# Altium schematic symbol library RCDQLY (2).SCHLIB: 64 symbols
Pins are listed as number, name and electrical type; pins without a type are passive.

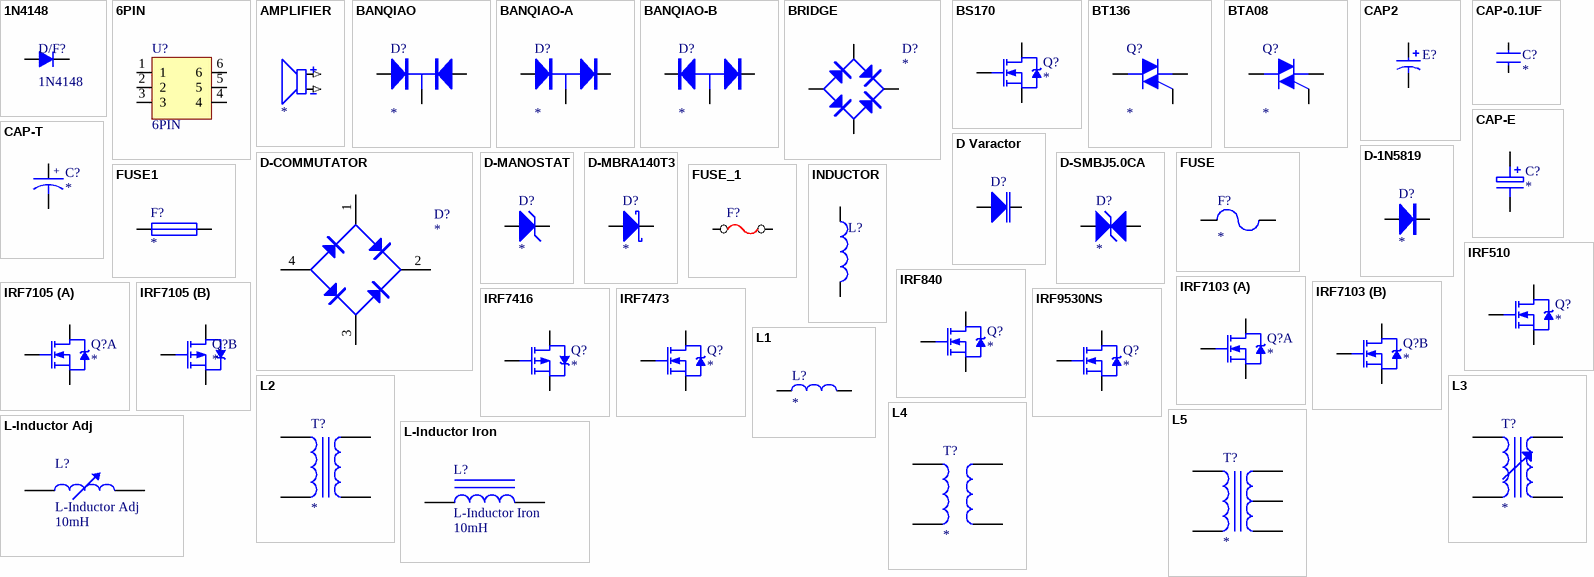
[diagram p0: symbols 1N4148 to L-Inductor Iron]

## 1N4148
designator D/F?
footprint SOD-80
pins: A, K

## 6PIN
designator U?
pins: 1, 2, 3, 4, 5, 6

## AMPLIFIER
designator ?
pins: 1 IN+ (in), 2 IN- (in)

## BANQIAO
designator D?
DIODE BRIDGE
pins: 1 A1, 2 K, 3 A2

## BANQIAO-A
designator D?
DIODE BRIDGE
pins: 1 A, 2 C, 3 K

## BANQIAO-B
designator D?
DIODE BRIDGE
pins: 1 K1, 2 A, 3 K2

## BRIDGE
designator D?
DIODE BRIDGE
pins: 1 AC, 2 V+, 3 AC, 4 V-

## BS170
designator Q?
CQ-BS170
footprint TO-92
pins: 1 D, 2 G, 3 S

## BT136
designator Q?
CQ-BT136
footprint TO-220
pins: 1 T1, 2 T2, 3 G

## BTA08
designator Q?
CQ-BTA08
footprint TO-220
pins: 1 A1, 2 A2, 3 G

## CAP2
designator E?  (value not drawn)
Bi-Polar Capacitor
simulation model CAP
pins: 1, 2
1 alternate drawing of the same symbol

## CAP-0.1UF
designator C?
SMD-CAP
footprint 0603C
footprint 0805C
footprint 1206C
pins: 1, 2

## CAP-E
designator C?
电解电容
footprint RB.2/.4
footprint RB.2/.5
footprint RB.1/.3
footprint RB.3/.6
pins: 1, 2

## CAP-T
designator C?
钽电容
footprint 6032C
footprint 7343C
footprint 3528C
footprint 3216C
pins: 1, 2
text: +

## D Varactor
designator D?
Variable Capacitance Diode; Note: Pin 2 is not connected and not drawn.; Published: 8-Jun-2000; LatestRevisionDate: 17-Jul-2002; LatestRevisionNote: Re-released for DXP Platform.; DatasheetDocument: Jan-1998; PackageReference: SOT23A; Publisher: Altium Limited; Code_JEDEC: SOT23; ComponentLink1Description: Manufacturer Link; ComponentLink1URL: http://www.zetex.com/
footprint SOT23A (SOT-23; 3 Leads; Body 3.0 x 2.5 mm, inc. leads (LxW max))
simulation model BBY31 (Diode)
signal-integrity model D Varactor
pins: 1 K, 3 A

## D-1N5819
designator D?
Diode
footprint DO-41
footprint DO-35
pins: A 1, K 2

## D-COMMUTATOR
designator D?
commutator整流桥
pins: 1 AC, 2 V+, 3 AC, 4 V-

## D-MANOSTAT
designator D?
manostat diode
footprint DO-41
footprint DO-35
pins: A 1, K 2

## D-MBRA140T3
designator D?
MBRA140T3
footprint SMA
pins: A 1, K 2

## D-SMBJ5.0CA
designator D?
TVS
footprint SMB
footprint SMB-B
pins: A 1, K 2

## FUSE
designator F?
CR-1812-050A60V
footprint 1812R
pins: 1, 2

## FUSE1
designator F?
FUSE
pins: 1, 2

## FUSE_1
designator F?  (value not drawn)
Fuse
simulation model FUSE (SUBCKT)
pins: 1, 2

## INDUCTOR
designator L?  (value not drawn)
Inductor
simulation model INDUCTOR
pins: 1, 2

## IRF510
designator Q?
CQ-IRF510
footprint TO-220
pins: 1 G, 2 D, 3 S

## IRF840
designator Q?
CQ-IRF840
footprint TO-220
pins: 1 G, 2 D, 3 S

## IRF7103
designator Q?
CQ-IRF7103     SO-8N
footprint IRF7105
part A pins: D1, G1, S1
part B pins: D2, G2, S2

## IRF7105
designator Q?
CQ-IRF7105     SO-8N
footprint IRF7105
part A pins: D1, G1, S1
part B pins: D2, G2, S2

## IRF7416
designator Q?
CQ-IRF7416
footprint IRF7416
pins: D, G, S

## IRF7473
designator Q?
CQ-IRF7473
footprint IRF7473
pins: D, G, S

## IRF9530NS
designator Q?
CQ-IRF9530NS
footprint D2PAK
pins: 1 G, 2 D, 3 S

## L1
designator L?
电感
footprint SLF10145
footprint SLF12565
pins: 1, 2

## L2
designator T?
变压器
pins: 1, 2, 3, 4

## L3
designator T?
变压器
pins: 1, 2, 3, 4

## L4
designator T?
变压器
pins: 1, 2, 3, 4

## L5
designator T?
变压器
pins: 1, 2, 3, 4, 5

## L-Inductor Adj
designator L?  value 10mH
Adjustable Inductor; Set Position: 0.5; Published: 24-Mar-1999; LatestRevisionDate: 17-Jul-2002; LatestRevisionNote: Re-released for DXP Platform.; PackageReference: AXIAL-0.8; Publisher: Altium Limited
footprint AXIAL-0.8 (Adjustable Inductor; 2 Leads)
simulation model INDUCTOR (Inductor)
signal-integrity model Inductor Adj
pins: 1, 2

## L-Inductor Iron
designator L?  value 10mH
Magnetic-Core Inductor; Published: 24-Mar-1999; LatestRevisionDate: 17-Jul-2002; LatestRevisionNote: Re-released for DXP Platform.; PackageReference: AXIAL-0.9; Publisher: Altium Limited
footprint AXIAL-0.9 (Magnetic-Core Inductor; 2 Leads)
simulation model INDUCTOR (Inductor)
signal-integrity model Inductor Iron
pins: 1, 2

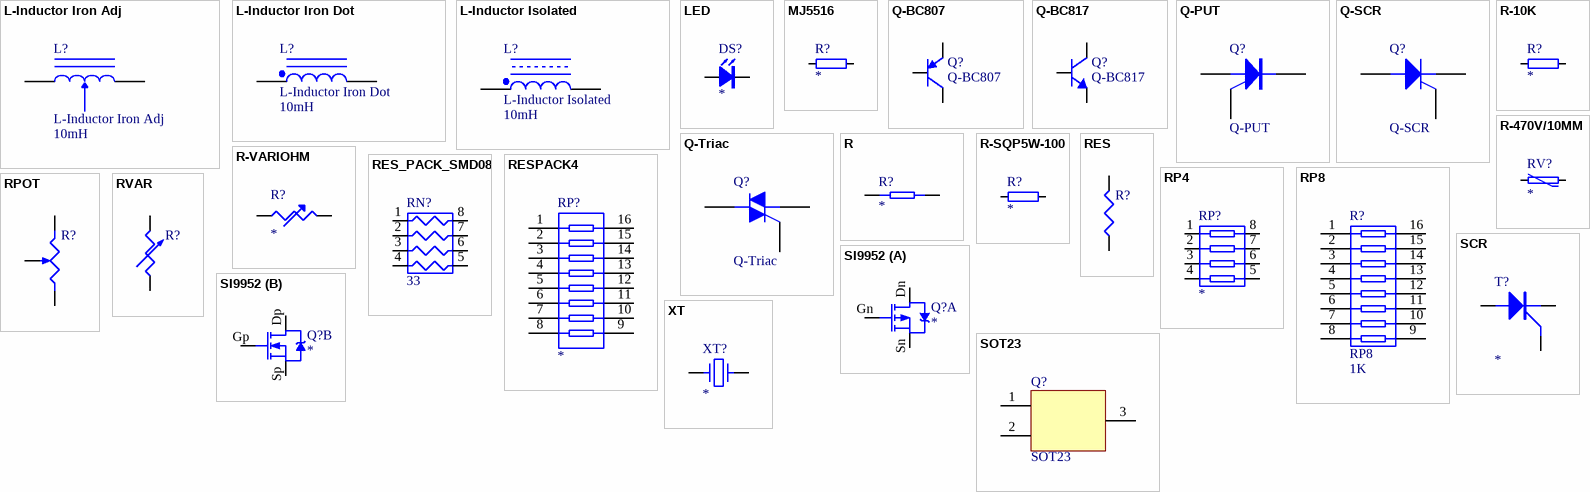
[diagram p1: symbols L-Inductor Iron Adj to XT]

## L-Inductor Iron Adj
designator L?  value 10mH
Adjustable Magnetic-Core Inductor; Set Position: 0.5; Published: 24-Mar-1999; LatestRevisionDate: 17-Jul-2002; LatestRevisionNote: Re-released for DXP Platform.; PackageReference: AXIAL-1.0; Publisher: Altium Limited
footprint AXIAL-1.0 (Adjustable Magnetic-Core Inductor; 2 Leads)
simulation model INDUCTOR (Inductor)
signal-integrity model Inductor Iron Adj
pins: 1, 2

## L-Inductor Iron Dot
designator L?  value 10mH
Magnetic-Core Inductor with Winding Polarity Marking; Published: 24-Mar-1999; LatestRevisionDate: 17-Jul-2002; LatestRevisionNote: Re-released for DXP Platform.; PackageReference: DIODE_SMC; Publisher: Altium Limited
footprint DIODE_SMC (Magnetic-Core Inductor with Winding Polarity Marking; 2 Leads)
signal-integrity model Inductor Iron Dot
pins: 1, 2

## L-Inductor Isolated
designator L?  value 10mH
Isolated Inductor; PackageDocument: 1988; Published: 24-Mar-1999; LatestRevisionDate: 17-Jul-2002; LatestRevisionNote: Re-released for DXP Platform.; PackageReference: 425; Publisher: Altium Limited
footprint 425 (SOD-123; 2 Leads; Body 2.7 x 1.6 mm, (LxW))
signal-integrity model Inductor Isolated
pins: 1, 2

## LED
designator DS?
footprint 0805D
pins: A 1, K 2

## MJ5516
designator R?
CR-MJ5516
footprint MJ5515
pins: 1, 2

## Q-BC807
designator Q?
PNP General Purpose Amplifier; Published: 8-Jun-2000; LatestRevisionDate: 15-Jan-2003; LatestRevisionNote: PCB Footprint 'BCY-W3/D4.7' replaced; DatasheetDocument: 1997; PackageDocument: Sep-1998; PackageReference: TO-92A; Publisher: Altium Limited; Code_JEDEC: TO-92A; ComponentLink1Description: Manufacturer Link; ComponentLink1URL: http://www.fairchildsemi.com/; ComponentLink2Description: Datasheet; ComponentLink2URL: http://www.fairchildsemi.com/ds/2N%2F2N3906.pdf
footprint SOT-23Q
simulation model 2N3906 (PNP)
signal-integrity model 2N3906
pins: B, C, E

## Q-BC817
designator Q?
NPN General Purpose Amplifier; Published: 8-Jun-2000; LatestRevisionDate: 15-Jan-2003; LatestRevisionNote: PCB Footprint 'BCY-W3/D4.7' replaced; DatasheetDocument: 1997; PackageDocument: Sep-1998; PackageReference: TO-92A; Publisher: Altium Limited; Code_JEDEC: TO-92A; ComponentLink1Description: Manufacturer Link; ComponentLink1URL: http://www.fairchildsemi.com/; ComponentLink2Description: Datasheet; ComponentLink2URL: http://www.fairchildsemi.com/ds/2N%2F2N3904.pdf
footprint TO-92A (TO, Flat Index; 3 In-Line, Axial Leads; Body Dia. 4.5mm; Leads 0.51 x 0.48 mm (max))
simulation model 2N3904 (NPN)
signal-integrity model 2N3904
pins: 1 E, 2 B, 3 C

## Q-PUT
designator Q?
Programmable Unijunction Transistor; Published: 8-Jun-2000; LatestRevisionDate: 17-Jul-2002; LatestRevisionNote: Re-released for DXP Platform.; PackageReference: TO-52; Publisher: Altium Limited
footprint TO-52 (Can; 3 Leads; Pin Circle Dia. 2.54 mm)
simulation model PUT (Spice Subcircuit)
pins: 1 A, 2 G, 3 K

## Q-SCR
designator Q?
Silicon Controlled Rectifier; Published: 8-Jun-2000; LatestRevisionDate: 17-Jul-2002; LatestRevisionNote: Re-released for DXP Platform.; PackageReference: TO-220-AB; Publisher: Altium Limited; Code_JEDEC: TO-220-AB
footprint TO-220-AB (TO, Thru-Hole, Vertical, Heatsink Mounted; 3 In-Line Leads; Pitch 2.54 mm)
simulation model SCR (Spice Subcircuit)
pins: 1 A, 2 G, 3 K

## Q-Triac
designator Q?
Silicon Bidirectional Triode Thyristor; Note: Pin 2 is electrically connected to Pin 4 (TAB); Published: 29-Sep-2000; LatestRevisionDate: 17-Jul-2002; LatestRevisionNote: Re-released for DXP Platform.; DatasheetDocument: 1999; PackageReference: 369-03; Publisher: Altium Limited; Code_JEDEC: TO-251-AA; ComponentLink1Description: Manufacturer Link; ComponentLink1URL: http://www.motorola.com/
footprint 369-03 (TO, Thru-Hole, Vertical, Heatsink Mounted; 3 In-Line Leads; Pitch 2.28 mm)
simulation model MAC15A8 (Spice Subcircuit)
pins: 1 M1, 2 M2, 3 G

## R
designator R?
pins: 1, 2

## R-10K
designator R?
resistor
footprint 0805R
footprint 0603R
footprint 1206R
pins: 1, 2

## R-470V/10MM
designator RV?
C-471KD10
footprint 470V/10MM
pins: 1, 2

## R-SQP5W-100
designator R?
CR-SQP5W-101J
footprint R-SQP5W
pins: 1, 2

## R-VARIOHM
designator R?
pins: 1, 2

## RES
designator R?  (value not drawn)
Resistor
footprint AXIAL0.2
footprint AXIAL0.3
simulation model RESISTOR
pins: 1 TOP, 2 BOT
1 alternate drawing of the same symbol

## RES_PACK_SMD08
designator RN?, comment 33
footprint RES_SMD08
pins: 1, 2, 3, 4, 5, 6, 7, 8

## RESPACK4
designator RP?
footprint DIP-16
pins: 1, 2, 3, 4, 5, 6, 7, 8, 9, 10, 11, 12, 13, 14, 15, 16

## RP4
designator RP?
pins: 1, 2, 3, 4, 5, 6, 7, 8

## RP8
designator R?  value 1K
Isolated Resistor Network; Published: 24-Mar-1999; LatestRevisionDate: 17-Jul-2002; LatestRevisionNote: Re-released for DXP Platform.; PackageReference: SSOP16; Publisher: Altium Limited; Code_JEDEC: MO-150-AC
footprint SSOP16 (SSOP; 16 Leads; Body Width 5.3 mm; Pitch 0.65 mm)
simulation model respack_8 (Spice Subcircuit)
pins: 1, 2, 3, 4, 5, 6, 7, 8, 9, 10, 11, 12, 13, 14, 15, 16

## RPOT
designator R?  (value not drawn)
Potentiometer
simulation model POT
pins: 1 TOP, 2 TAP, 3 BOT
1 alternate drawing of the same symbol

## RVAR
designator R?  (value not drawn)
Variable Resistor
simulation model VRES
pins: 1 TOP, 2 BOT
1 alternate drawing of the same symbol

## SCR
designator T?
SCR
pins: 1 A, 2 K, 3 G

## SI9952
designator Q?
CQ-SI9952
footprint SI9952
part A pins: Dn, Gn, Sn
part B pins: Dp, Gp, Sp

## SOT23
designator Q?
pins: 1, 2, 3

## XT
designator XT?
晶振
footprint HC-49S
pins: 1, 2